# EAGLE library part DS3231S (library DS3231S)
Check availability <https://pricing.snapeda.com/parts/DS3231S%23/Analog%20Devices/view-part?ref=eda>
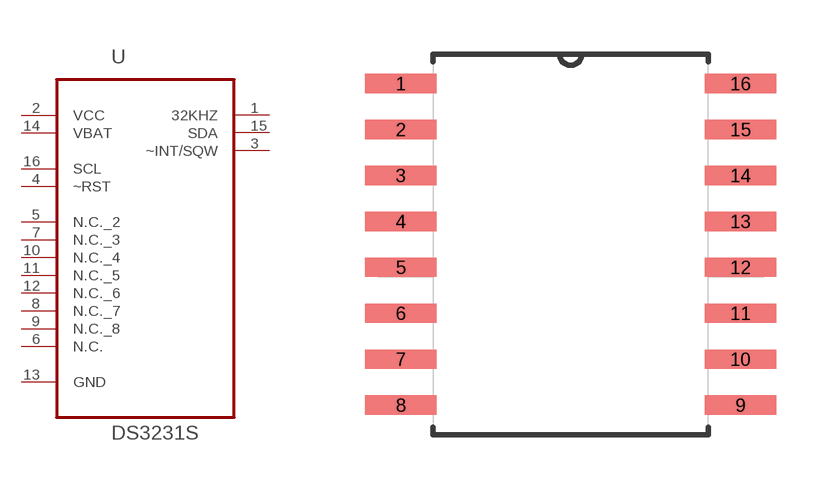
[diagram p0: symbol with the pads of SOIC127P1032X265-16N; footprint SOIC127P1032X265-16N]

Designator prefix U

## DS3231S (Availability: In Stock; Check_prices: https://www.snapeda.com/parts/DS3231S%23/Analog+Devices/view-part/?ref=eda; Description: Extremely Accurate I²C-Integrated RTC/TCXO/Crystal; MF: Analog Devices; MP: DS3231S#; Package: SOIC-16 Maxim; Price: None; SnapEDA_Link: https://www.snapeda.com/parts/DS3231S%23/Analog+Devices/view-part/?ref=snap)  [SOIC127P1032X265-16N]
1  32KHZ  out
2  VCC  pwr
3  ~INT/SQW  out
4  ~RST
5  N.C._2  nc
6  N.C.  nc
7  N.C._3  nc
8  N.C._7  nc
9  N.C._8  nc
10  N.C._4  nc
11  N.C._5  nc
12  N.C._6  nc
13  GND  pas
14  VBAT  pwr
15  SDA
16  SCL  in

## Footprint SOIC127P1032X265-16N (pad centres in mm)
smd 1.981 x 0.533: 1 -4.699,4.445; 2 -4.699,3.175; 3 -4.699,1.905; 4 -4.699,0.635; 5 -4.699,-0.635; 6 -4.699,-1.905; 7 -4.699,-3.175; 8 -4.699,-4.445; 9 4.699,-4.445; 10 4.699,-3.175; 11 4.699,-1.905; 12 4.699,-0.635; 13 4.699,0.635; 14 4.699,1.905; 15 4.699,3.175; 16 4.699,4.445